# Altium schematic symbol library Schlib1.SchLib: 25 symbols
Pins are listed as number, name and electrical type; pins without a type are passive.

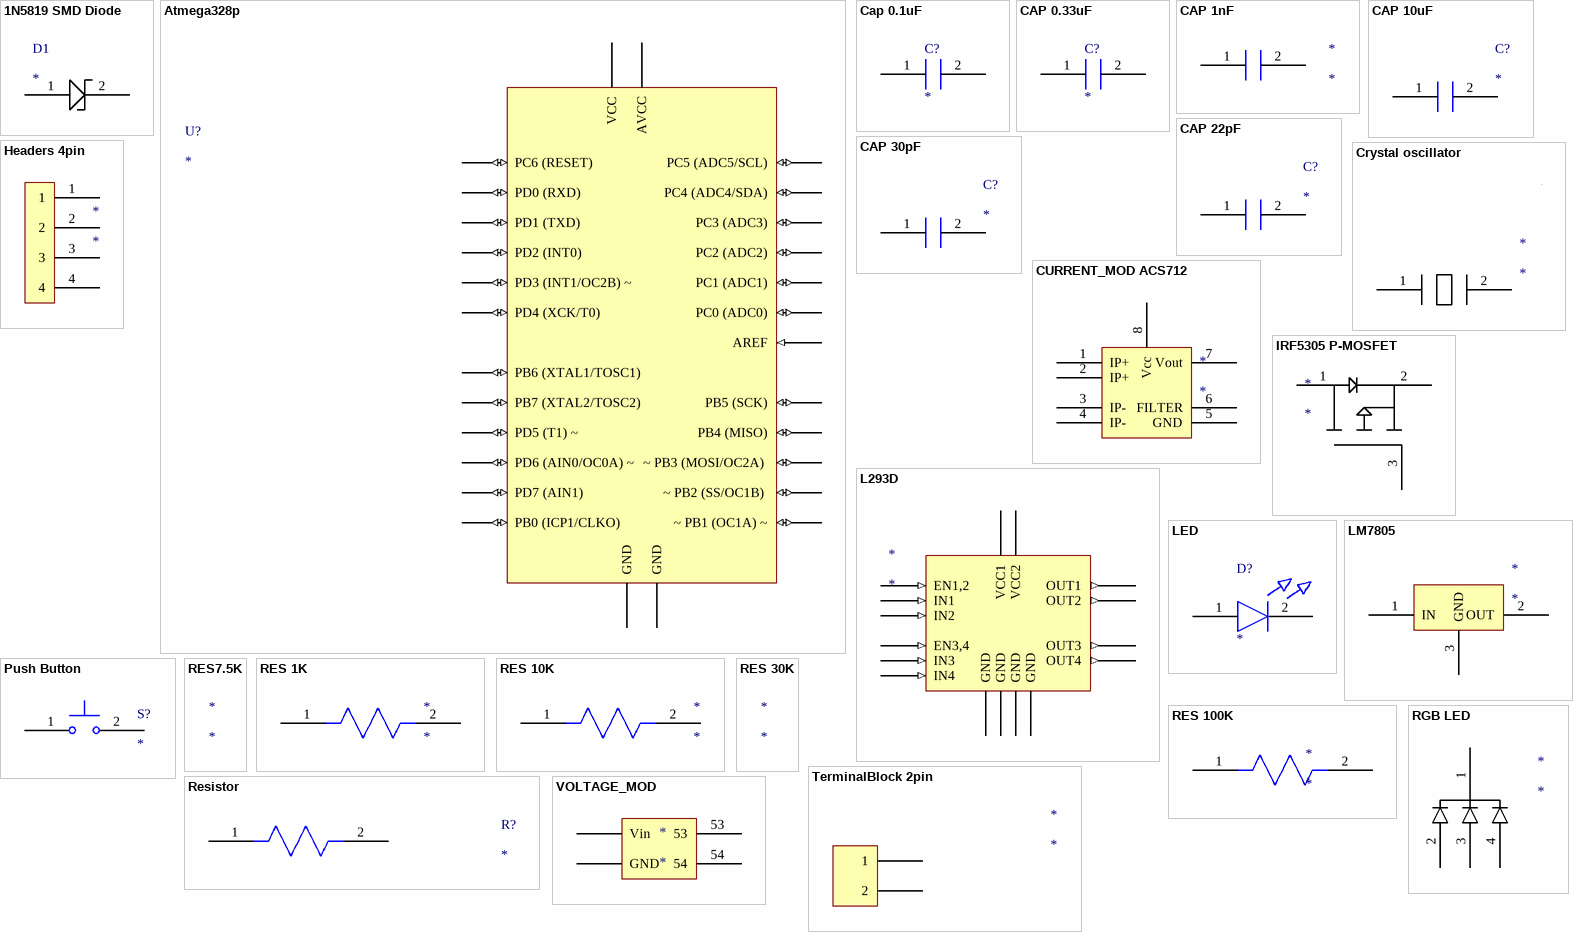
[diagram p0: symbols 1N5819 SMD Diode to VOLTAGE_MOD]

## 1N5819 SMD Diode
designator D1
footprint 1N5819 SMD Diode
pins: 1, 2

## Atmega328p
designator U?
footprint ATMega 328 P-PU - duplicate
pins: 1 PC6 (RESET) (io), 2 PD0 (RXD) (io), 3 PD1 (TXD) (io), 4 PD2 (INT0) (io), 5 PD3 (INT1/OC2B) ~ (io), 6 PD4 (XCK/T0) (io), 7 VCC, 8 GND, 9 PB6 (XTAL1/TOSC1) (io), 10 PB7 (XTAL2/TOSC2) (io), 11 PD5 (T1) ~ (io), 12 PD6 (AIN0/OC0A) ~ (io), 13 PD7 (AIN1) (io), 14 PB0 (ICP1/CLKO) (io), 15 ~ PB1 (OC1A) ~ (io), 16 ~ PB2 (SS/OC1B)  (io), 17 ~ PB3 (MOSI/OC2A)  (io), 18 PB4 (MISO) (io), 19 PB5 (SCK) (io), 20 AVCC, 21 AREF (in), 22 GND, 23 PC0 (ADC0) (io), 24 PC1 (ADC1) (io), 25 PC2 (ADC2) (io), 26 PC3 (ADC3) (io), 27 PC4 (ADC4/SDA) (io), 28 PC5 (ADC5/SCL) (io)

## Cap 0.1uF
designator C?
footprint CAP 0.1uF
pins: 1, 2

## CAP 0.33uF
designator C?
pins: 1, 2

## CAP 1nF
designator *
footprint CAP 1nF
pins: 1, 2

## CAP 10uF
designator C?
footprint Cap 10uF
pins: 1, 2

## CAP 22pF
designator C?
footprint Cap 22pF
pins: 1, 2

## CAP 30pF
designator C?
footprint CAP 30pF
pins: 1, 2

## Crystal oscillator
designator *
footprint Crrystal 16MHZ
pins: 1, 2

## CURRENT_MOD ACS712
designator *
footprint Cuurent_sens
pins: 1 IP+, 2 IP+, 3 IP-, 4 IP-, 5 GND, 6 FILTER, 7 Vout, 8 Vcc

## Headers 4pin
designator *
footprint Header 4pin
pins: 1, 2, 3, 4

## IRF5305 P-MOSFET
designator *
footprint IRF5305
pins: 1 D, 2 S, 3 G

## L293D
designator *
footprint L293D
pins: 1 EN1,2 (in), 2 IN1 (in), 3 OUT1 (out), 4 GND (power), 5 GND (power), 6 OUT2 (out), 7 IN2 (in), 8 VCC2 (power), 9 EN3,4 (in), 10 IN3 (in), 11 OUT3 (out), 12 GND (power), 13 GND (power), 14 OUT4 (out), 15 IN4 (in), 16 VCC1 (power)

## LED
designator D?
footprint LED
footprint LED
pins: 1 7, 2 6

## LM7805
designator *
footprint LM7805
pins: 1 IN, 2 OUT, 3 GND (power)

## Push Button
designator S?
footprint Push Button
pins: 1 76, 2 77

## RES7.5K
designator *

## RES 1K
designator *
footprint Res 1K
pins: 1 3, 2 4

## RES 10K
designator *
footprint Res10K
pins: 1 3, 2 4

## RES 30K
designator *

## RES 100K
designator *
footprint Res100K
pins: 1 3, 2 4

## Resistor
designator R?
pins: 1 3, 2 4

## RGB LED
designator *
footprint RGB LED
pins: 1 (-), 2 R, 3 G, 4 B

## TerminalBlock 2pin
designator *
Mfr number: *; Parameter 2: *; Parameter 3: *; Parameter 4: *
footprint Terminal Block 2pin
pins: 1, 2

## VOLTAGE_MOD
designator *
pins: 1 Vin, 2 GND, 53, 54